# Altium footprint library 5013311107.PcbLib: 1 footprints
Each footprint in its own frame and in the unit in brackets; x right, y up, seen from the top. Pads: shape width x height; smd on the part's side, far side on the other; paste and mask are expansions set on the pad; w line width, h text height; cw(c..) or ccw(c..) is an arc to the next point about the centre after c.
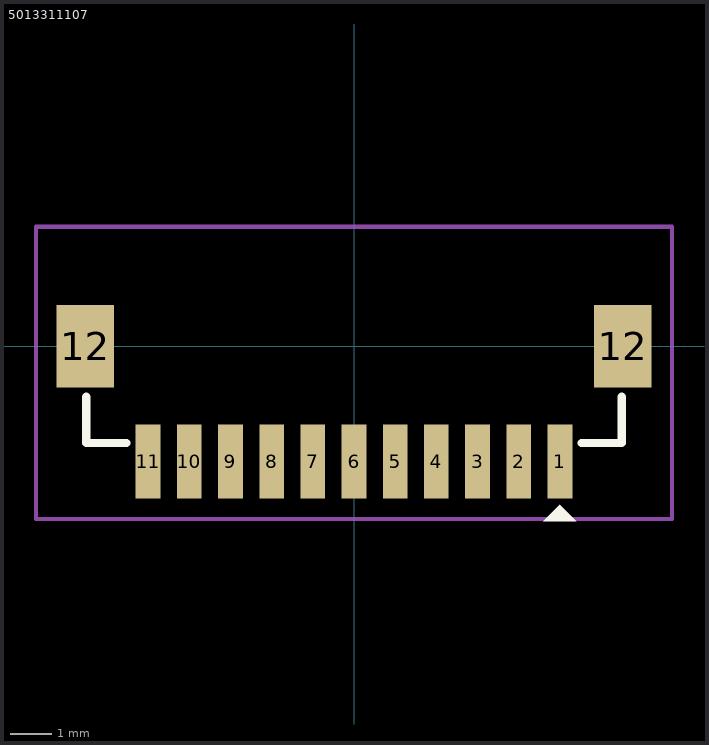
[diagram p0: the footprint, top view; thin cyan lines are the x and y axes]

## 5013311107 [mm]
pads (13):
  rect 0.6x1.8 smd: 1(5,-2.8) 2(4,-2.8) 3(3,-2.8) 4(2,-2.8) 5(1,-2.8) 6(0,-2.8) 7(-1,-2.8) 8(-2,-2.8) 9(-3,-2.8) 10(-4,-2.8) 11(-5,-2.8)
  rect 1.4x2 smd: 12(-6.525,0) 12(6.525,0)
Top Overlay:
  region: 5.4,-4.25 4.6,-4.25 5,-3.85
  lines w0.2: -6.5,-1.225 -6.5,-2.35 -5.525,-2.35 ; 5.525,-2.35 6.5,-2.35 6.5,-1.225
Top Courtyard:
  lines w0.1: -7.725,-1 -7.725,-4.2 ; -7.725,-4.2 7.725,-4.2 7.725,2.9 -7.725,2.9 -7.725,-4.2
3D body "5013311107.stp": height 5.52, standoff -0.03, extent -6.615,-2.95 6.625,2.4